# Altium footprint library u-blox.PCBLIB: 1 footprints
Each footprint in its own frame and in the unit in brackets; x right, y up, seen from the top. Pads: shape width x height; smd on the part's side, far side on the other; paste and mask are expansions set on the pad; w line width, h text height; cw(c..) or ccw(c..) is an arc to the next point about the centre after c.
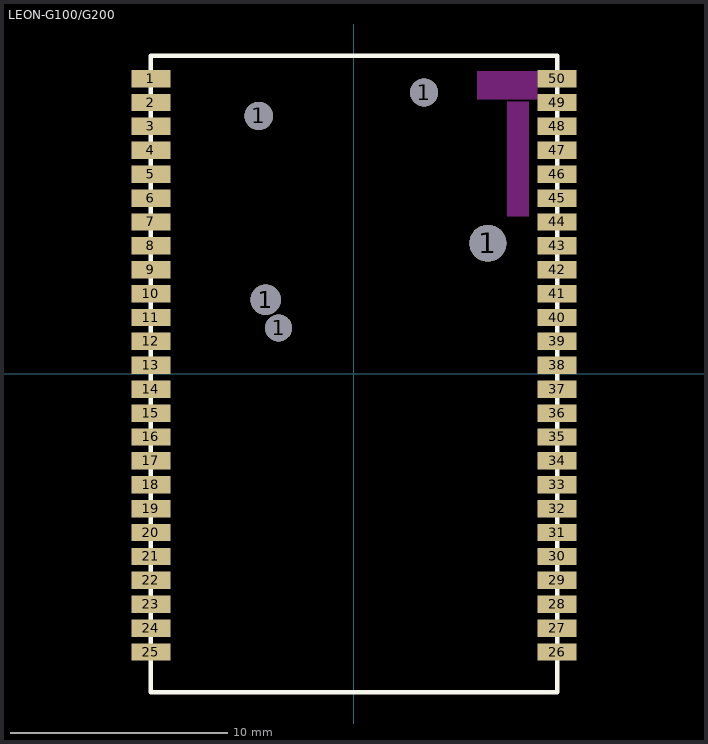
[diagram p0: the footprint, top view; thin cyan lines are the x and y axes]

## LEON-G100/G200 [mm]
pads (55):
  rect 1.8x0.8 smd: 1(-9.35,13.6) 2(-9.35,12.5) 3(-9.35,11.4) 4(-9.35,10.3) 5(-9.35,9.2) 6(-9.35,8.1) 7(-9.35,7) 8(-9.35,5.9) 9(-9.35,4.8) 10(-9.35,3.7) 11(-9.35,2.6) 12(-9.35,1.5) 13(-9.35,0.4) 14(-9.35,-0.7) 15(-9.35,-1.8) 16(-9.35,-2.9) 17(-9.35,-4) 18(-9.35,-5.1) 19(-9.35,-6.2) 20(-9.35,-7.3) 21(-9.35,-8.4) 22(-9.35,-9.5) 23(-9.35,-10.6) 24(-9.35,-11.7) 25(-9.35,-12.8) 26(9.35,-12.8) 27(9.35,-11.7) 28(9.35,-10.6) 29(9.35,-9.5) 30(9.35,-8.4) 31(9.35,-7.3) 32(9.35,-6.2) 33(9.35,-5.1) 34(9.35,-4) 35(9.35,-2.9) 36(9.35,-1.8) 37(9.35,-0.7) 38(9.35,0.4) 39(9.35,1.5) 40(9.35,2.6) 41(9.35,3.7) 42(9.35,4.8) 43(9.35,5.9) 44(9.35,7) 45(9.35,8.1) 46(9.35,9.2) 47(9.35,10.3) 48(9.35,11.4) 49(9.35,12.5) 50(9.35,13.6)
  round 1.31 hole 1.31: 1(-4.39,11.88)
  round 1.4 hole 1.4: 1(-4.07,3.42)
  round 1.24 hole 1.24: 1(-3.47,2.12)
  round 1.29 hole 1.29: 1(3.23,12.96)
  round 1.7 hole 1.7: 1(6.16,6.02)
Top Layer keep-out:
  rectangle: 5.66,12.65 8.44,13.95
  rectangle: 7.05,7.25 8.05,12.55
Top Overlay:
  lines w0.203: -9.35,-14.65 9.35,-14.65 9.35,14.65 -9.35,14.65 -9.35,-14.65
Top Paste:
  rectangle: -9.6,13.3 -8.8,13.9
  rectangle: -11.35,13.2 -9.45,14
  rectangle: -9.6,12.2 -8.8,12.8
  rectangle: -11.35,12.1 -9.45,12.9
  rectangle: -9.6,11.1 -8.8,11.7
  rectangle: -11.35,11 -9.45,11.8
  rectangle: -9.6,10 -8.8,10.6
  rectangle: -11.35,9.9 -9.45,10.7
  rectangle: -9.6,8.9 -8.8,9.5
  rectangle: -11.35,8.8 -9.45,9.6
  rectangle: -9.6,7.8 -8.8,8.4
  rectangle: -11.35,7.7 -9.45,8.5
  rectangle: -9.6,6.7 -8.8,7.3
  rectangle: -11.35,6.6 -9.45,7.4
  rectangle: -9.6,5.6 -8.8,6.2
  rectangle: -11.35,5.5 -9.45,6.3
  rectangle: -9.6,4.5 -8.8,5.1
  rectangle: -11.35,4.4 -9.45,5.2
  rectangle: -9.6,3.4 -8.8,4
  rectangle: -11.35,3.3 -9.45,4.1
  rectangle: -9.6,2.3 -8.8,2.9
  rectangle: -11.35,2.2 -9.45,3
  rectangle: -9.6,1.2 -8.8,1.8
  rectangle: -11.35,1.1 -9.45,1.9
  rectangle: -9.6,0.1 -8.8,0.7
  rectangle: -11.35,0 -9.45,0.8
  rectangle: -9.6,-1 -8.8,-0.4
  rectangle: -11.35,-1.1 -9.45,-0.3
  rectangle: -9.6,-2.1 -8.8,-1.5
  rectangle: -11.35,-2.2 -9.45,-1.4
  rectangle: -9.6,-3.2 -8.8,-2.6
  rectangle: -11.35,-3.3 -9.45,-2.5
  rectangle: -9.6,-4.3 -8.8,-3.7
  rectangle: -11.35,-4.4 -9.45,-3.6
  rectangle: -9.6,-5.4 -8.8,-4.8
  rectangle: -11.35,-5.5 -9.45,-4.7
  rectangle: -9.6,-6.5 -8.8,-5.9
  rectangle: -11.35,-6.6 -9.45,-5.8
  rectangle: -9.6,-7.6 -8.8,-7
  rectangle: -11.35,-7.7 -9.45,-6.9
  rectangle: -9.6,-8.7 -8.8,-8.1
  rectangle: -11.35,-8.8 -9.45,-8
  rectangle: -9.6,-9.8 -8.8,-9.2
  rectangle: -11.35,-9.9 -9.45,-9.1
  rectangle: -9.6,-10.9 -8.8,-10.3
  rectangle: -11.35,-11 -9.45,-10.2
  rectangle: -9.6,-12 -8.8,-11.4
  rectangle: -11.35,-12.1 -9.45,-11.3
  rectangle: -9.6,-13.1 -8.8,-12.5
  rectangle: -11.35,-13.2 -9.45,-12.4
  region: 9.6,-12.5 8.8,-12.5 8.8,-13.1 9.6,-13.1
  region: 11.35,-12.4 9.45,-12.4 9.45,-13.2 11.35,-13.2
  region: 9.6,-11.4 8.8,-11.4 8.8,-12 9.6,-12
  region: 11.35,-11.3 9.45,-11.3 9.45,-12.1 11.35,-12.1
  region: 9.6,-10.3 8.8,-10.3 8.8,-10.9 9.6,-10.9
  region: 11.35,-10.2 9.45,-10.2 9.45,-11 11.35,-11
  region: 9.6,-9.2 8.8,-9.2 8.8,-9.8 9.6,-9.8
  region: 11.35,-9.1 9.45,-9.1 9.45,-9.9 11.35,-9.9
  region: 9.6,-8.1 8.8,-8.1 8.8,-8.7 9.6,-8.7
  region: 11.35,-8 9.45,-8 9.45,-8.8 11.35,-8.8
  region: 9.6,-7 8.8,-7 8.8,-7.6 9.6,-7.6
  region: 11.35,-6.9 9.45,-6.9 9.45,-7.7 11.35,-7.7
  region: 9.6,-5.9 8.8,-5.9 8.8,-6.5 9.6,-6.5
  region: 11.35,-5.8 9.45,-5.8 9.45,-6.6 11.35,-6.6
  region: 9.6,-4.8 8.8,-4.8 8.8,-5.4 9.6,-5.4
  region: 11.35,-4.7 9.45,-4.7 9.45,-5.5 11.35,-5.5
  region: 9.6,-3.7 8.8,-3.7 8.8,-4.3 9.6,-4.3
  region: 11.35,-3.6 9.45,-3.6 9.45,-4.4 11.35,-4.4
  region: 9.6,-2.6 8.8,-2.6 8.8,-3.2 9.6,-3.2
  region: 11.35,-2.5 9.45,-2.5 9.45,-3.3 11.35,-3.3
  region: 9.6,-1.5 8.8,-1.5 8.8,-2.1 9.6,-2.1
  region: 11.35,-1.4 9.45,-1.4 9.45,-2.2 11.35,-2.2
  region: 9.6,-0.4 8.8,-0.4 8.8,-1 9.6,-1
  region: 11.35,-0.3 9.45,-0.3 9.45,-1.1 11.35,-1.1
  region: 9.6,0.7 8.8,0.7 8.8,0.1 9.6,0.1
  region: 11.35,0.8 9.45,0.8 9.45,0 11.35,0
  region: 9.6,1.8 8.8,1.8 8.8,1.2 9.6,1.2
  region: 11.35,1.9 9.45,1.9 9.45,1.1 11.35,1.1
  region: 9.6,2.9 8.8,2.9 8.8,2.3 9.6,2.3
  region: 11.35,3 9.45,3 9.45,2.2 11.35,2.2
  region: 9.6,4 8.8,4 8.8,3.4 9.6,3.4
  region: 11.35,4.1 9.45,4.1 9.45,3.3 11.35,3.3
  region: 9.6,5.1 8.8,5.1 8.8,4.5 9.6,4.5
  region: 11.35,5.2 9.45,5.2 9.45,4.4 11.35,4.4
  region: 9.6,6.2 8.8,6.2 8.8,5.6 9.6,5.6
  region: 11.35,6.3 9.45,6.3 9.45,5.5 11.35,5.5
  region: 9.6,7.3 8.8,7.3 8.8,6.7 9.6,6.7
  region: 11.35,7.4 9.45,7.4 9.45,6.6 11.35,6.6
  region: 9.6,8.4 8.8,8.4 8.8,7.8 9.6,7.8
  region: 11.35,8.5 9.45,8.5 9.45,7.7 11.35,7.7
  region: 9.6,9.5 8.8,9.5 8.8,8.9 9.6,8.9
  region: 11.35,9.6 9.45,9.6 9.45,8.8 11.35,8.8
  region: 9.6,10.6 8.8,10.6 8.8,10 9.6,10
  region: 11.35,10.7 9.45,10.7 9.45,9.9 11.35,9.9
  region: 9.6,11.7 8.8,11.7 8.8,11.1 9.6,11.1
  region: 11.35,11.8 9.45,11.8 9.45,11 11.35,11
  region: 9.6,12.8 8.8,12.8 8.8,12.2 9.6,12.2
  region: 11.35,12.9 9.45,12.9 9.45,12.1 11.35,12.1
  region: 9.6,13.9 8.8,13.9 8.8,13.3 9.6,13.3
  region: 11.35,14 9.45,14 9.45,13.2 11.35,13.2
Top Solder:
  rectangle: -11.4,13.15 -8.4,14.05
  rectangle: -11.4,12.05 -8.4,12.95
  rectangle: -11.4,10.95 -8.4,11.85
  rectangle: -11.4,9.85 -8.4,10.75
  rectangle: -11.4,8.75 -8.4,9.65
  rectangle: -11.4,7.65 -8.4,8.55
  rectangle: -11.4,6.55 -8.4,7.45
  rectangle: -11.4,5.45 -8.4,6.35
  rectangle: -11.4,4.35 -8.4,5.25
  rectangle: -11.4,3.25 -8.4,4.15
  rectangle: -11.4,2.15 -8.4,3.05
  rectangle: -11.4,1.05 -8.4,1.95
  rectangle: -11.4,-0.05 -8.4,0.85
  rectangle: -11.4,-1.15 -8.4,-0.25
  rectangle: -11.4,-2.25 -8.4,-1.35
  rectangle: -11.4,-3.35 -8.4,-2.45
  rectangle: -11.4,-4.45 -8.4,-3.55
  rectangle: -11.4,-5.55 -8.4,-4.65
  rectangle: -11.4,-6.65 -8.4,-5.75
  rectangle: -11.4,-7.75 -8.4,-6.85
  rectangle: -11.4,-8.85 -8.4,-7.95
  rectangle: -11.4,-9.95 -8.4,-9.05
  rectangle: -11.4,-11.05 -8.4,-10.15
  rectangle: -11.4,-12.15 -8.4,-11.25
  rectangle: -11.4,-13.25 -8.4,-12.35
  region: 11.4,-12.35 8.4,-12.35 8.4,-13.25 11.4,-13.25
  region: 11.4,-11.25 8.4,-11.25 8.4,-12.15 11.4,-12.15
  region: 11.4,-10.15 8.4,-10.15 8.4,-11.05 11.4,-11.05
  region: 11.4,-9.05 8.4,-9.05 8.4,-9.95 11.4,-9.95
  region: 11.4,-7.95 8.4,-7.95 8.4,-8.85 11.4,-8.85
  region: 11.4,-6.85 8.4,-6.85 8.4,-7.75 11.4,-7.75
  region: 11.4,-5.75 8.4,-5.75 8.4,-6.65 11.4,-6.65
  region: 11.4,-4.65 8.4,-4.65 8.4,-5.55 11.4,-5.55
  region: 11.4,-3.55 8.4,-3.55 8.4,-4.45 11.4,-4.45
  region: 11.4,-2.45 8.4,-2.45 8.4,-3.35 11.4,-3.35
  region: 11.4,-1.35 8.4,-1.35 8.4,-2.25 11.4,-2.25
  region: 11.4,-0.25 8.4,-0.25 8.4,-1.15 11.4,-1.15
  region: 11.4,0.85 8.4,0.85 8.4,-0.05 11.4,-0.05
  region: 11.4,1.95 8.4,1.95 8.4,1.05 11.4,1.05
  region: 11.4,3.05 8.4,3.05 8.4,2.15 11.4,2.15
  region: 11.4,4.15 8.4,4.15 8.4,3.25 11.4,3.25
  region: 11.4,5.25 8.4,5.25 8.4,4.35 11.4,4.35
  region: 11.4,6.35 8.4,6.35 8.4,5.45 11.4,5.45
  region: 11.4,7.45 8.4,7.45 8.4,6.55 11.4,6.55
  region: 11.4,8.55 8.4,8.55 8.4,7.65 11.4,7.65
  region: 11.4,9.65 8.4,9.65 8.4,8.75 11.4,8.75
  region: 11.4,10.75 8.4,10.75 8.4,9.85 11.4,9.85
  region: 11.4,11.85 8.4,11.85 8.4,10.95 11.4,10.95
  region: 11.4,12.95 8.4,12.95 8.4,12.05 11.4,12.05
  region: 11.4,14.05 8.4,14.05 8.4,13.15 11.4,13.15